# EAGLE library part ADC128D818 (library texas-instruments.2)
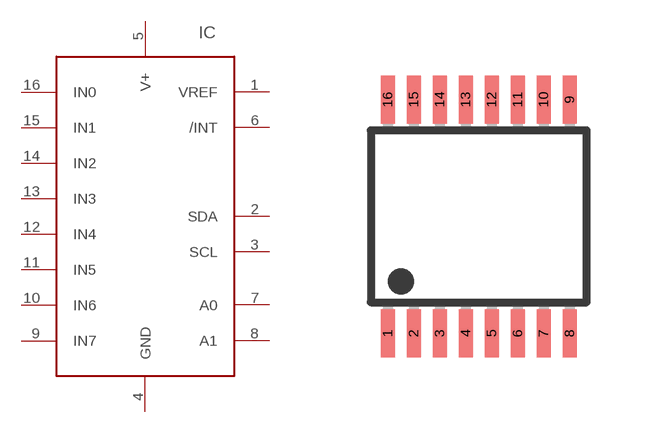
[diagram p13: symbol with the pads of TSSOP16; footprint TSSOP16]

Designator prefix IC

## ADC128D818  [TSSOP16]
1  VREF
2  SDA
3  SCL
4  GND
5  V+
6  /INT
7  A0
8  A1
9  IN7
10  IN6
11  IN5
12  IN4
13  IN3
14  IN2
15  IN1
16  IN0

## Footprint TSSOP16 (pad centres in mm)
PW (R-PDSO-G8) Source: http://focus.ti.com/lit/ds/symlink/ads1271.pdf
smd 0.35 x 1.2: 1 -2.275,-2.925; 2 -1.625,-2.925; 3 -0.975,-2.925; 4 -0.325,-2.925; 5 0.325,-2.925; 6 0.975,-2.925; 7 1.625,-2.925; 8 2.275,-2.925; 9 2.275,2.925; 10 1.625,2.925; 11 0.975,2.925; 12 0.325,2.925; 13 -0.325,2.925; 14 -0.975,2.925; 15 -1.625,2.925; 16 -2.275,2.925